# EAGLE library part TI_DCDC_LMZ21701 (library Z-Wave_Europe)
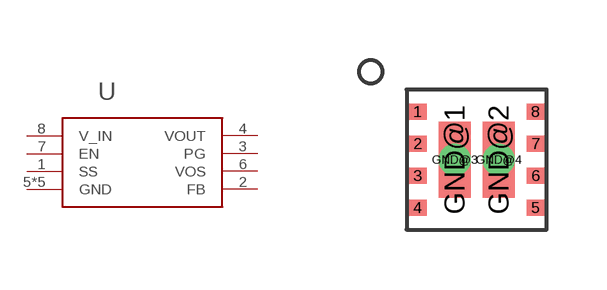
[diagram p6: symbol with the pads of LM21701; footprint LM21701]

Designator prefix -

## TI_DCDC_LMZ21701  [LM21701]
1  SS
2  FB
3  PG
4  VOUT
5  GND
6  VOS
7  EN
8  V_IN
GND@1  GND
GND@2  GND
GND@3  GND
GND@4  GND

## Footprint LM21701 (pad centres in mm)
smd 0.45 x 0.4: 1 -1.475,1.2; 2 -1.475,0.4; 3 -1.475,-0.4; 4 -1.475,-1.2; 5 1.475,-1.2; 6 1.475,-0.4; 7 1.475,0.4; 8 1.475,1.2
smd 0.8 x 1.9: GND@1 -0.55,0; GND@2 0.55,0
drill 0.3: GND@3 -0.55,0; GND@4 0.55,0